# Altium footprint library 7Robot.PcbLib: 36 footprints (part 2 of 3)
Each footprint in its own frame and in the unit in brackets; x right, y up, seen from the top. Pads: shape width x height; smd on the part's side, far side on the other; paste and mask are expansions set on the pad; w line width, h text height; cw(c..) or ccw(c..) is an arc to the next point about the centre after c.
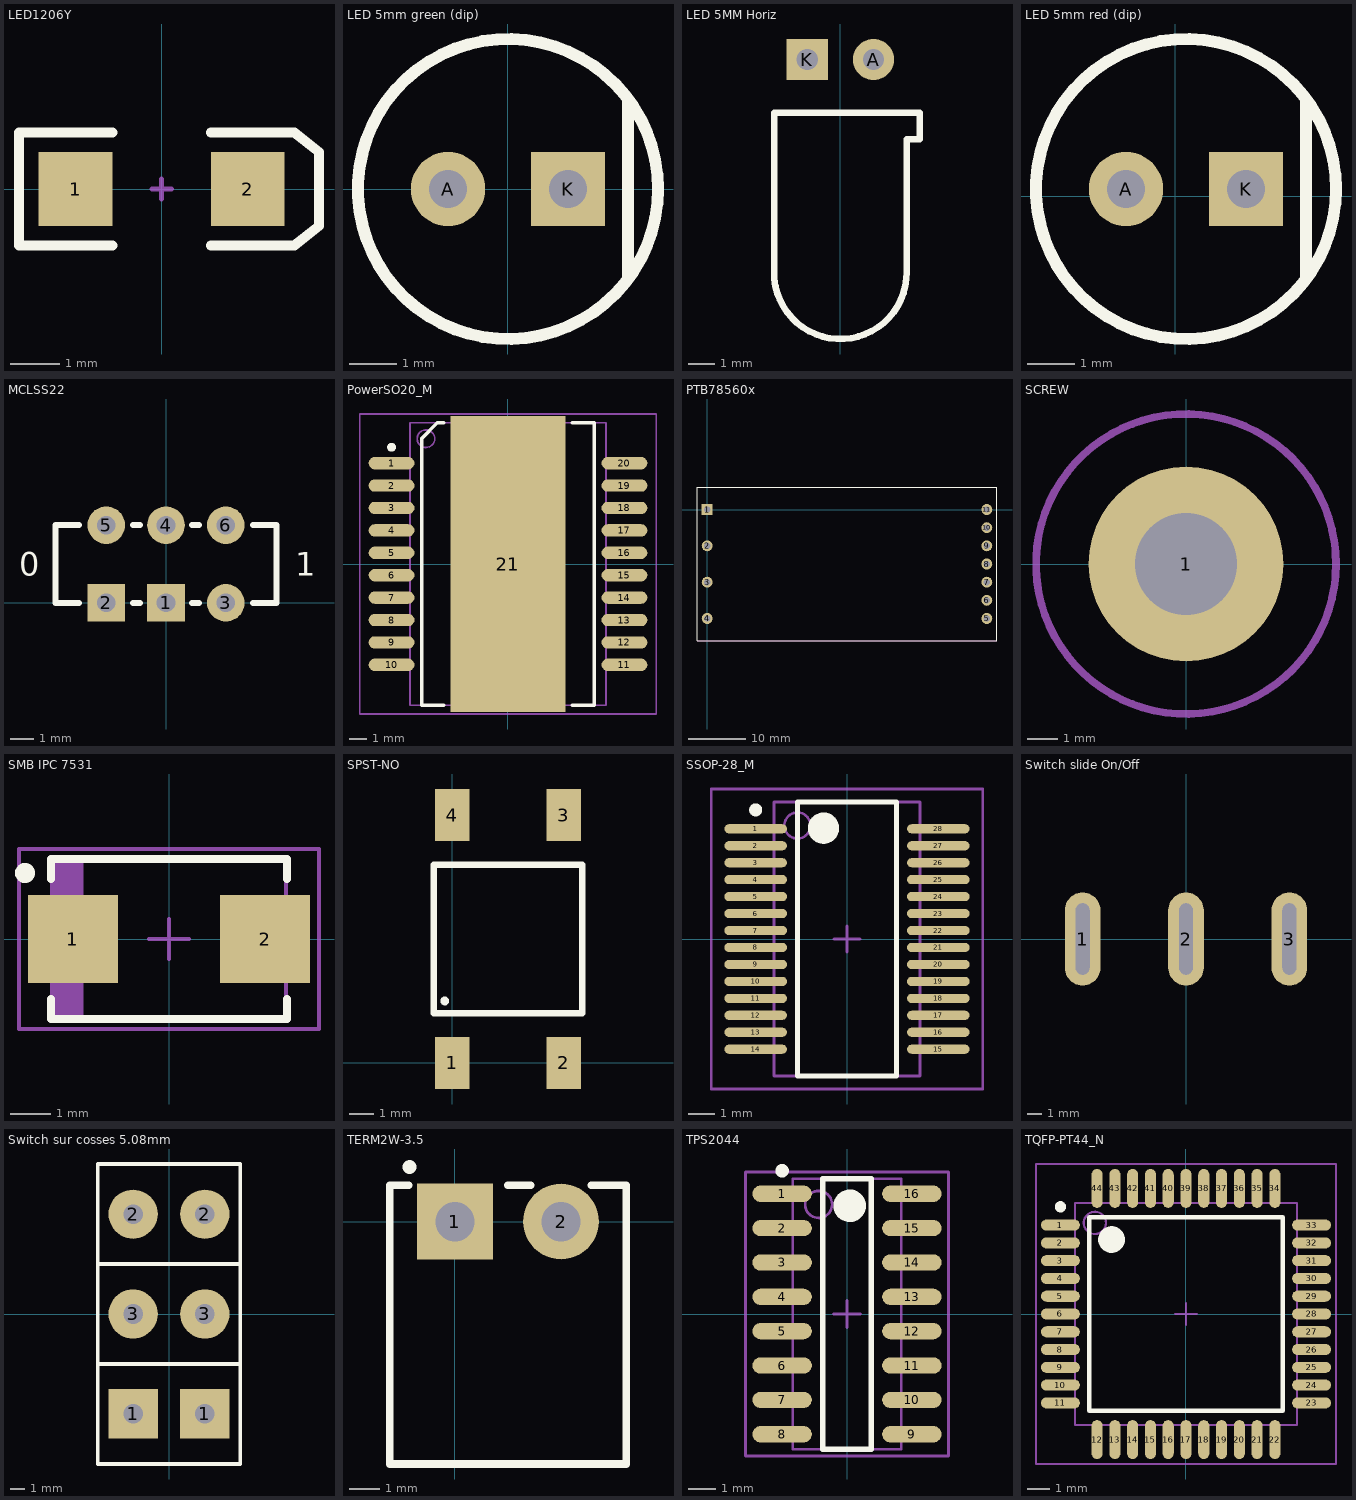
[diagram p1: the footprints below, top view; thin cyan lines are the x and y axes]

## LED1206Y [mm] "SMT LED; 2 Flat Leads; 3.2X1.6X1.1"
height 1.2
pads (2):
  rect 1.5x1.5 smd: 1(-1.75,0) 2(1.75,0)
Top Overlay:
  lines w0.2: -1,-1.15 -2.9,-1.15 -2.9,1.15 -1,1.15 ; 1,-1.15 2.7,-1.15 3.2,-0.75 3.2,0.75 2.7,1.15 1,1.15
Mechanical 1:
  lines w0.1: -0.2,0 0.2,0 ; 0,-0.2 0,0.2
3D body: height 1.11, standoff -0.4, extent -1.6,-0.8 1.6,0.8

## LED 5mm green (dip) [mil] "LED 5mm green (dip) straight"
pads (2):
  round 62 hole 32: A(-50,0)
  rect 62x62 hole 32: K(50,0)
Top Overlay:
  circle w10: c0,0 r125
  lines w10: 100,-75 100,75
3D body: height 925.2, standoff -492.13, extent -112.2,-114.17 116.14,114.17

## LED 5MM Horiz [mil] "LED 5mm Right Angle"
height 196.85
pads (2):
  round 62 hole 32: A(50,-1144.8)
  rect 62x62 hole 32: K(-50,-1144.8)
Top Overlay:
  lines w10: -99.97,-1464.8 ccw(c0.01,-1466.39) 100,-1464.8 100,-1264.8 120,-1264.8 120,-1224.8 -99.97,-1224.8 -99.97,-1464.8
3D body: height 232.28, standoff -98.43, extent -98.42,-1567.32 114.18,-1136.21

## LED 5mm red (dip) [mil] "LED 5mm red (dip) straight"
pads (2):
  round 62 hole 32: A(-40.94,5.91)
  rect 62x62 hole 32: K(59.06,5.91)
Top Overlay:
  circle w10: c9.06,5.91 r125
  lines w10: 109.06,-69.09 109.06,80.91
3D body: height 925.2, standoff -492.13, extent -104.33,-106.3 124.02,122.05

## MCLSS22 [mm] "Slide Switch DPDT"
height 8.5
pads (6):
  rect 1.6x1.6 hole 0.8: 1(0,0) 2(-2.54,0)
  round 1.6 hole 0.8: 3(2.54,0) 4(0,3.3) 5(-2.54,3.3) 6(2.54,3.3)
Top Overlay:
  lines w0.254: -3.7,0 -4.7,0 -4.7,3.3 -3.7,3.3 ; -1.4,0 -1.1,0 ; -1.4,3.3 -1.1,3.3 ; 1.1,0 1.4,0 ; 1.1,3.3 1.4,3.3 ; 3.7,0 4.7,0 4.7,3.3 3.7,3.3
  text "0" at -6.25,1.15 h1
  text "1" at 5.5,1.15 h1
3D body: height 3.15, standoff 1.65, extent 0.5,-2 2,0
3D body: height 3.5, standoff 0, extent -4.7,0 4.7,3.3

## PowerSO20_M [mm] "SOP, 20-Leads, Body 15.9x11mm, Pitch 1.27mm, IPC Low Density"
height 3.6
pads (21):
  oval 2.6x0.7 smd: 1(-6.6,5.715) 2(-6.6,4.445) 3(-6.6,3.175) 4(-6.6,1.905) 5(-6.6,0.635) 6(-6.6,-0.635) 7(-6.6,-1.905) 8(-6.6,-3.175) 9(-6.6,-4.445) 10(-6.6,-5.715) 11(6.6,-5.715) 12(6.6,-4.445) 13(6.6,-3.175) 14(6.6,-1.905) 15(6.6,-0.635) 16(6.6,0.635) 17(6.6,1.905) 18(6.6,3.175) 19(6.6,4.445) 20(6.6,5.715)
  rect 6.5x16.8 smd: 21(0,0)
Top Overlay:
  circle w0.25: c-6.6,6.615 r0.125
  lines w0.2: -3.65,-8 -4.9,-8 -4.9,7.1 -4,8 -3.65,8 ; 3.65,-8 4.9,-8 4.9,8 3.65,8
Mechanical 13:
  circle w0.1: c-4.65,7.1 r0.5
  lines w0.1: -5.55,-8 5.55,-8 5.55,8 -5.55,8 -5.55,-8
Mechanical 15:
  lines w0.1: -0.5,0 0.5,0 ; 0,-0.5 0,0.5 ; -8.4,-8.5 8.4,-8.5 8.4,8.5 -8.4,8.5 -8.4,-8.5
3D body: height 3.6, standoff 0, extent -7.2,-8 7.2,8

## PTB78560x [mm] "PTB78560x Texas Instruments Regulator"
height 10
pads (11):
  rect 1.905x1.905 hole 1.1: 1(0,0)
  round 1.905 hole 1.1: 2(0,-6.35) 3(0,-12.7) 4(0,-19.05) 5(48.895,-19.05) 6(48.895,-15.875) 7(48.895,-12.7) 8(48.895,-9.525) 9(48.895,-6.35) 10(48.895,-3.175) 11(48.895,0)
Mid-Layer 24:
  lines w0.2: -1.778,-23.05 50.673,-23.05 50.673,4 -1.778,4 -1.778,-23.05
Top Overlay:
  lines w0.2: -1.714,-22.987 50.609,-22.987 50.609,3.937 -1.714,3.937 -1.714,-22.987
Keep-Out Layer:
  lines w0.2: -1.714,-22.987 50.609,-22.987 50.609,3.937
3D body: height 10, standoff 2, extent 11.25,-21.25 27.5,-6.25
3D body: height 2, standoff 0, extent -1.714,-22.987 50.609,3.937

## SCREW [mm] "Mounting Hole M3"
height 10
pads (1):
  round 6.5 hole 3.4: 1(0,0)
Mechanical 1:
  circle w0.254: c0,0 r5
3D body: height -0.8, standoff -3.8, extent -2.886,-2.523 2.886,2.524
3D body: height 10, standoff -8.18, extent -2.886,-2.523 2.887,2.524

## SMB IPC 7531 [mm] "Molded Diode, 2-Leads, Body 5,8x3,6mm, IPC Medium Density"
height 2.45
pads (2):
  rect 2.25x2.2 smd: 1(-2.4,0) 2(2.4,0)
Top Overlay:
  circle w0.25: c-3.6,1.65 r0.125
  lines w0.2: -2.95,-1.5 -2.95,-2 2.95,-2 2.95,-1.5 ; -2.95,1.5 -2.95,2 2.95,2 2.95,1.5
Mechanical 13:
  rectangle: -2.92,-1.975 -2.135,1.975
  lines w0.1: -2.92,-1.975 2.92,-1.975 2.92,1.975 -2.92,1.975 -2.92,-1.975
Mechanical 15:
  lines w0.1: -0.5,0 0.5,0 ; 0,-0.5 0,0.5 ; -3.75,-2.25 3.75,-2.25 3.75,2.25 -3.75,2.25 -3.75,-2.25
3D body: height 2.45, standoff 0, extent -2.92,-1.975 2.92,1.975

## SPST-NO [mm] "Tactile Switch SPST-NO 6x6mm"
height 6
pads (4):
  rect 1.4x2.1 smd: 1(0,0) 2(4.5,0) 3(4.5,10) 4(0,10)
Top Overlay:
  circle w0.254: c-0.3,2.5 r0.05
  lines w0.254: -0.75,2 -0.75,8 5.25,8 5.25,2 -0.75,2
3D body: height 5, standoff -0.05, extent -0.75,0.925 5.25,9.075

## SSOP-28_M [mm] "SOP, 28-Leads, Body 10.2x5.3mm, Pitch 0.65mm, IPC Low Density"
height 2
pads (28):
  oval 2.4x0.35 smd: 1(-3.5,4.225) 2(-3.5,3.575) 3(-3.5,2.925) 4(-3.5,2.275) 5(-3.5,1.625) 6(-3.5,0.975) 7(-3.5,0.325) 8(-3.5,-0.325) 9(-3.5,-0.975) 10(-3.5,-1.625) 11(-3.5,-2.275) 12(-3.5,-2.925) 13(-3.5,-3.575) 14(-3.5,-4.225) 15(3.5,-4.225) 16(3.5,-3.575) 17(3.5,-2.925) 18(3.5,-2.275) 19(3.5,-1.625) 20(3.5,-0.975) 21(3.5,-0.325) 22(3.5,0.325) 23(3.5,0.975) 24(3.5,1.625) 25(3.5,2.275) 26(3.5,2.925) 27(3.5,3.575) 28(3.5,4.225)
Top Overlay:
  circle w0.25: c-3.5,4.95 r0.125
  circle w0.6: c-0.9,4.25 r0.3
  lines w0.2: -1.9,-5.25 -1.9,5.25 1.9,5.25 1.9,-5.25 -1.9,-5.25
Mechanical 13:
  circle w0.1: c-1.9,4.35 r0.5
  lines w0.1: -2.8,-5.25 -2.8,5.25 2.8,5.25 2.8,-5.25 -2.8,-5.25
Mechanical 15:
  lines w0.1: -0.5,0 0.5,0 ; 0,-0.5 0,0.5 ; -5.2,-5.75 -5.2,5.75 5.2,5.75 5.2,-5.75 -5.2,-5.75
3D body: height 1.98, standoff -0.02, extent -3.906,-5.1 3.906,5.1

## Switch slide On/Off [mm] "Switch slide 2 positions ; ELONGATED HOLES"
pads (3):
  oval 2.45x6.4 hole 0.95 slot 4.9 at 90 deg: 1(-7.1,0) 2(0,0) 3(7.1,0)
3D body: height 21.34, standoff -6.6, extent -11.55,-11.45 11.45,11.55

## Switch sur cosses 5.08mm [mm] "Crimp Faston CI 5.08mm model : AMP - 1217080-1"
pads (6):
  rect 3.5x3.5 hole 1.4: 1(-2.55,-7.1) 1(2.55,-7.1)
  round 3.5 hole 1.4: 2(-2.55,7.1) 2(2.55,7.1) 3(-2.55,0) 3(2.55,0)
Top Overlay:
  lines w0.254: -5.08,-3.556 5.08,-3.556 ; -5.08,3.556 5.08,3.556 ; -5.08,-10.668 5.08,-10.668 5.08,10.668 -5.08,10.668 -5.08,-10.668
3D body: height 8.38, standoff -11.62, extent -3.8,5.25 3.6,9.45
3D body: height 8.38, standoff -11.62, extent -3.85,-1.75 3.55,2.45
3D body: height 8.38, standoff -11.62, extent -3.7,-8.9 3.7,-4.7
3D body: height 29.34, standoff 1.4, extent -11.5,-11 11.5,12

## TERM2W-3.5 [mm] "Horizontal Terminal Block, 2 ways, 3.5mm; Model 20.155MH/2"
height 7
pads (2):
  rect 2.5x2.5 hole 1.3: 1(0,0)
  round 2.5 hole 1.3: 2(3.5,0)
Top Overlay:
  circle w0.254: c-1.5,1.8 r0.1
  lines w0.254: -1.524,1.2 -2.15,1.2 -2.15,-8 5.65,-8 5.65,1.2 4.5,1.2 ; 1.75,1.2 2.5,1.2
3D body: height 7.25, standoff -3.4, extent -2.45,-8 5.95,1.2

## TPS2044 [mm] "Power distribution USB"
height 1.75
pads (16):
  oval 2.2x0.6 smd: 1(-2.4,4.445) 2(-2.4,3.175) 3(-2.4,1.905) 4(-2.4,0.635) 5(-2.4,-0.635) 6(-2.4,-1.905) 7(-2.4,-3.175) 8(-2.4,-4.445) 9(2.4,-4.445) 10(2.4,-3.175) 11(2.4,-1.905) 12(2.4,-0.635) 13(2.4,0.635) 14(2.4,1.905) 15(2.4,3.175) 16(2.4,4.445)
Top Overlay:
  circle w0.25: c-2.4,5.295 r0.125
  circle w0.6: c0.1,4 r0.3
  lines w0.2: -0.9,-5 -0.9,5 0.9,5 0.9,-5 -0.9,-5
Mechanical 13:
  circle w0.1: c-1.05,4.05 r0.5
  lines w0.1: -2,-5 -2,5 2,5 2,-5 -2,-5
Mechanical 15:
  lines w0.1: -0.5,0 0.5,0 ; 0,-0.5 0,0.5 ; -3.75,-5.25 -3.75,5.25 3.75,5.25 3.75,-5.25 -3.75,-5.25
3D body: height 1.75, standoff 0.25, extent -2,-5 2,5

## TQFP-PT44_N [mm] "Thin QFP, 44-Leads, Body 10x10mm, Pitch 0.8mm, IPC Medium Density"
height 1.2
pads (44):
  oval 1.75x0.5 smd: 1(-5.65,4) 2(-5.65,3.2) 3(-5.65,2.4) 4(-5.65,1.6) 5(-5.65,0.8) 6(-5.65,0) 7(-5.65,-0.8) 8(-5.65,-1.6) 9(-5.65,-2.4) 10(-5.65,-3.2) 11(-5.65,-4) 23(5.65,-4) 24(5.65,-3.2) 25(5.65,-2.4) 26(5.65,-1.6) 27(5.65,-0.8) 28(5.65,0) 29(5.65,0.8) 30(5.65,1.6) 31(5.65,2.4) 32(5.65,3.2) 33(5.65,4)
  oval 0.5x1.75 smd: 12(-4,-5.65) 13(-3.2,-5.65) 14(-2.4,-5.65) 15(-1.6,-5.65) 16(-0.8,-5.65) 17(0,-5.65) 18(0.8,-5.65) 19(1.6,-5.65) 20(2.4,-5.65) 21(3.2,-5.65) 22(4,-5.65) 34(4,5.65) 35(3.2,5.65) 36(2.4,5.65) 37(1.6,5.65) 38(0.8,5.65) 39(0,5.65) 40(-0.8,5.65) 41(-1.6,5.65) 42(-2.4,5.65) 43(-3.2,5.65) 44(-4,5.65)
Top Overlay:
  circle w0.25: c-5.65,4.825 r0.125
  circle w0.6: c-3.35,3.35 r0.3
  lines w0.2: -4.35,-4.35 -4.35,4.35 4.35,4.35 4.35,-4.35 -4.35,-4.35
Mechanical 13:
  circle w0.1: c-4.1,4.1 r0.5
  lines w0.1: -5,-5 -5,5 5,5 5,-5 -5,-5
Mechanical 15:
  lines w0.1: -0.5,0 0.5,0 ; 0,-0.5 0,0.5 ; -6.75,-6.75 -6.75,6.75 6.75,6.75 6.75,-6.75 -6.75,-6.75
3D body: height 1.05, standoff -0.01, extent -6,-6 6,6